# EAGLE library part COUPLED_INDUCTOR (library ruark2)
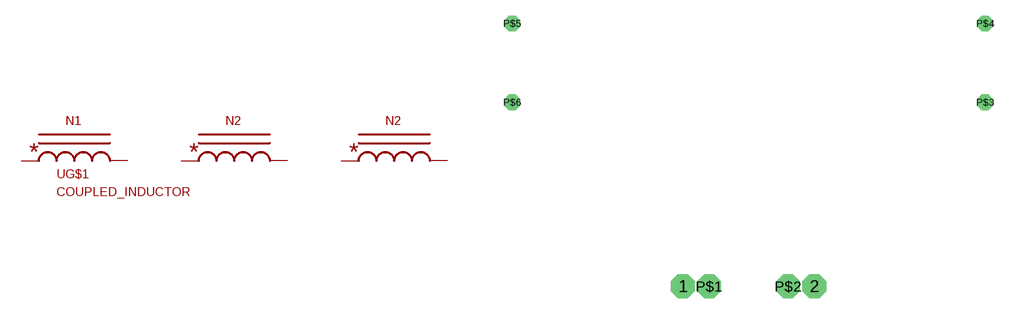
[diagram p8: symbol with the pads of C055071-COUPLED3; footprint C055071-COUPLED3]

Designator prefix -; gates G$1=INDUCTOR_N1 G$2=INDUCTOR_N2 G$3=INDUCTOR_N2

## COUPLED_INDUCTOR  [C055071-COUPLED3]
1  G$1:P$1
2  G$1:P$2
P$1  G$1:P$1
P$2  G$1:P$2
P$3  G$2:P$1
P$4  G$2:P$2
P$5  G$3:P$1
P$6  G$3:P$2

## Footprint C055071-COUPLED3 (pad centres in mm)
drill 1.524 octagon: 1 -6.35,-21.59; 2 6.35,-21.59; P$1 -3.81,-21.59; P$2 3.81,-21.59
drill 1.016 octagon: P$3 22.86,-3.81; P$4 22.86,3.81; P$5 -22.86,3.81; P$6 -22.86,-3.81